# Altium schematic symbol library CAP 0805 16V.SchLib: 2 symbols
Pins are listed as number, name and electrical type; pins without a type are passive.

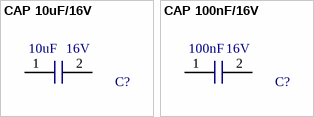
[diagram p0: symbols CAP 10uF/16V to CAP 100nF/16V]

## CAP 10uF/16V
designator C?, comment Capacitance: 10uF  Voltage: 16V  (hidden comment: CAP 10uF/16v)
10µF ±10% 16V Ceramic Capacitor X5R 0805 (2012 Metric); Manufacturer 1: Samsung Electro-Mechanics; Manufacturer 1 PN: CL21A106KOQNNWE; ComponentLink1Description: Specification; ComponentLink1URL: http://www.samsungsem.com/kr/support/product-search/mlcc/__icsFiles/afieldfile/2018/07/27/CL21A106KOQNNWE.pdf; Mouser PN: 710-885012107014
footprint CAP 10uF/16V (10µF ±10% 16V Ceramic Capacitor X5R 0805 (2012 Metric))
pins: 1, 2

## CAP 100nF/16V
designator C?  Capacitance: 100nF  Voltage: 16V  (hidden comment: CAP 100nF/16V)
0.1µF ±20% 16V Ceramic Capacitor Y5V (F) 0805 (2012 Metric); Manufacturer 1: Samsung Electro-Mechanics; Manufacturer 1 PN: CL21A106KOQNNWE; Mouser PN: 581-08055C104K4Z4A; Digikey PN: 1276-2894-1-ND; ComponentLink1Description: Specifications; ComponentLink1URL: http://www.samsungsem.com/kr/support/product-search/mlcc/__icsFiles/afieldfile/2018/07/27/CL21A106KOQNNWE.pdf
footprint CAP 100nF/16V (0.1µF ±20% 16V Ceramic Capacitor Y5V (F) 0805 (2012 Metric))
pins: 1, 2